# Altium footprint library Inductor_SMD.PcbLib: 587 footprints (part 1 of 37)
Each footprint in its own frame and in the unit in brackets; x right, y up, seen from the top. Pads: shape width x height; smd on the part's side, far side on the other; paste and mask are expansions set on the pad; w line width, h text height; cw(c..) or ccw(c..) is an arc to the next point about the centre after c.
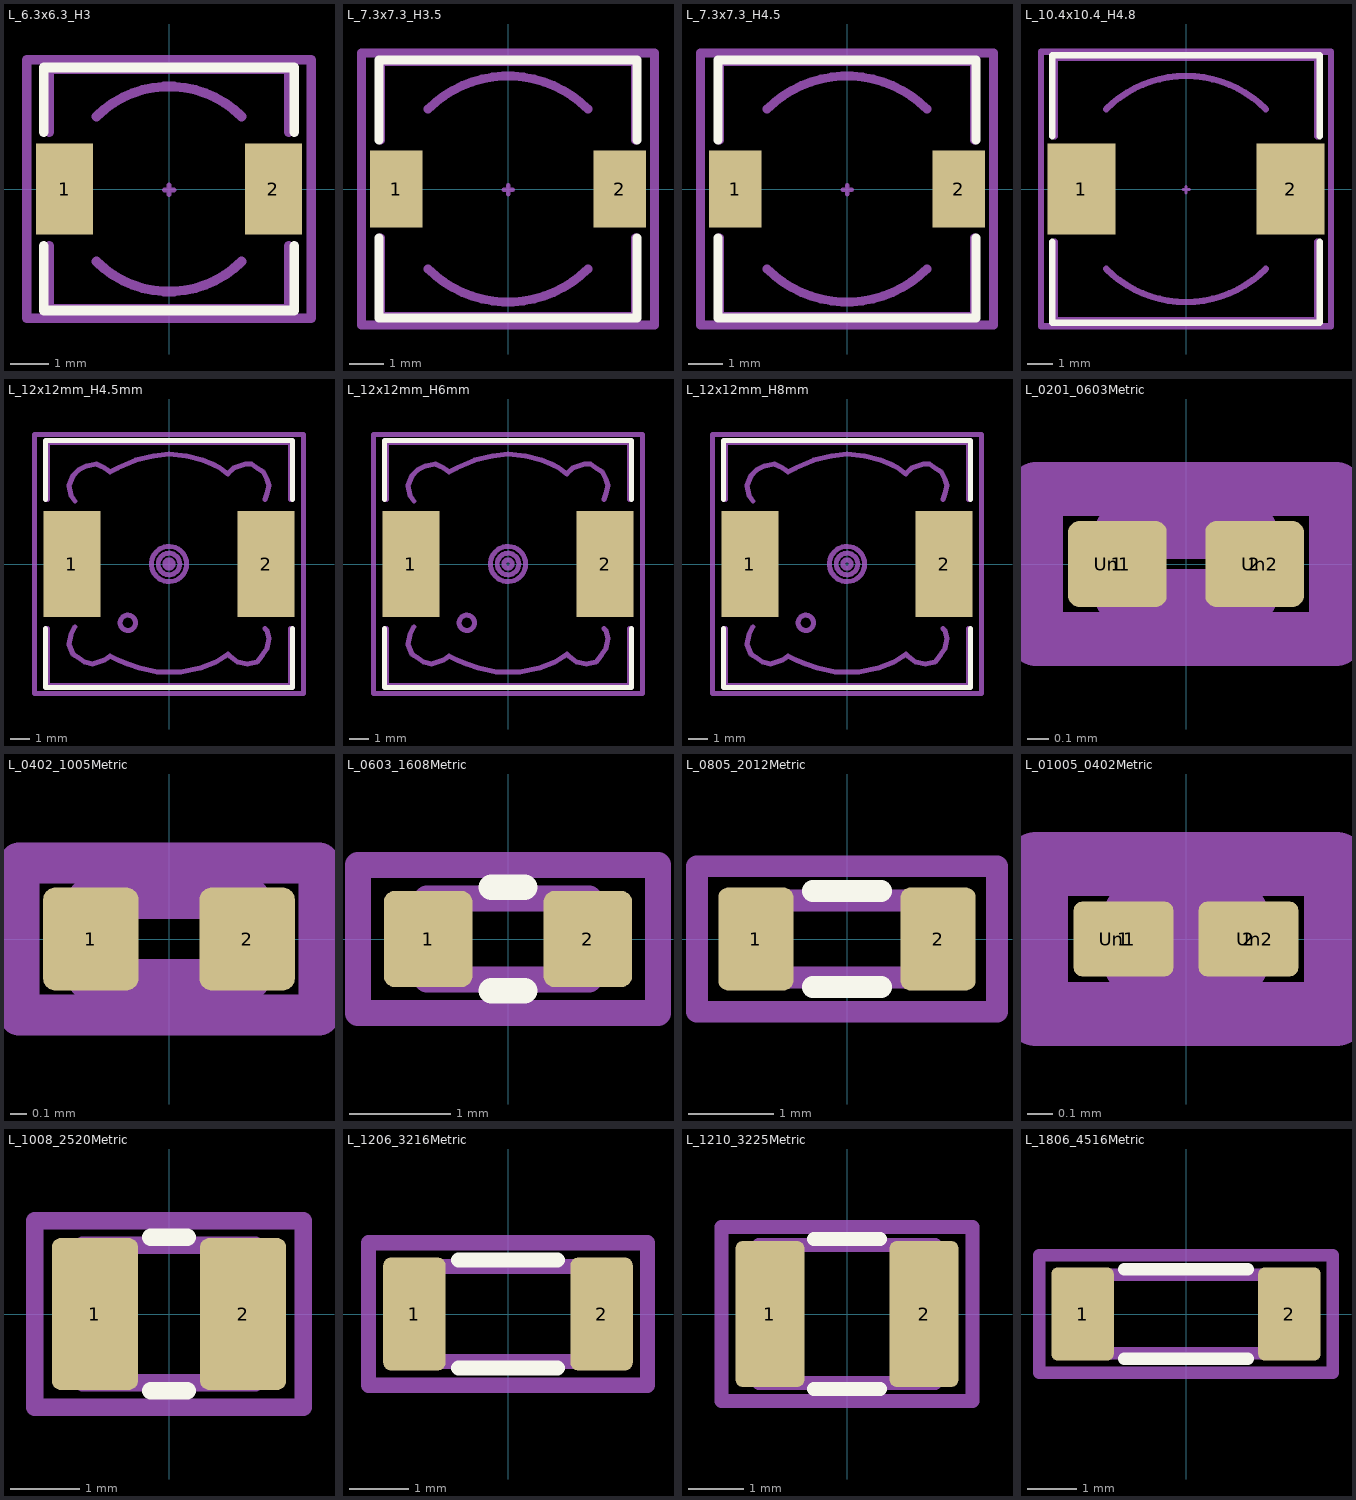
[diagram p0: the footprints below, top view; thin cyan lines are the x and y axes]

## L_6.3x6.3_H3 [mm] "L_6.3x6.3_H3"
pads (2):
  rect 1.5x2.4 smd: 1(-2.75,0) 2(2.75,0)
F.SilkS:
  lines w0.254: -3.3,-1.5 -3.3,-3.2 3.3,-3.2 3.3,-1.5 ; -3.3,1.5 -3.3,3.2 3.3,3.2 3.3,1.5
Top Component Center:
  lines w0.127: -0.123,-0.023 0.131,-0.023 ; 0.004,-0.15 0.004,0.104
Top Assembly:
  lines w0.254: -3.15,-1.5 -3.15,-3.15 3.15,-3.15 3.15,-1.5 ; -3.15,1.5 -3.15,3.15 3.15,3.15 3.15,1.5 ; -1.91,-1.91 ccw(c0,0) 1.91,-1.91 ; -1.91,1.91 cw(c0,0) 1.91,1.91
Top Courtyard:
  lines w0.254: -3.75,-3.4 -3.75,3.4 3.75,3.4 3.75,-3.4 -3.75,-3.4
Top Designator:
  text ".Designator" at -3.434,-0.345 h1.52

## L_7.3x7.3_H3.5 [mm] "L_7.3x7.3_H3.5"
pads (2):
  rect 1.5x2.2 smd: 1(-3.2,0) 2(3.2,0)
F.SilkS:
  lines w0.254: -3.7,-1.4 -3.7,-3.7 3.7,-3.7 3.7,-1.4 ; -3.7,1.4 -3.7,3.7 3.7,3.7 3.7,1.4
Top Component Center:
  lines w0.127: -0.123,-0.023 0.131,-0.023 ; 0.004,-0.15 0.004,0.104
Top Assembly:
  lines w0.254: -3.65,-1.4 -3.65,-3.65 3.65,-3.65 3.65,-1.4 ; -3.65,1.4 -3.65,3.65 3.65,3.65 3.65,1.4 ; -2.29,-2.29 ccw(c0,0) 2.29,-2.29 ; -2.29,2.29 cw(c0,0) 2.29,2.29
Top Courtyard:
  lines w0.254: -4.2,-3.9 4.2,-3.9 4.2,3.9 -4.2,3.9 -4.2,-3.9
Top Designator:
  text ".Designator" at -3.43,-0.368 h1.52

## L_7.3x7.3_H4.5 [mm] "L_7.3x7.3_H4.5"
pads (2):
  rect 1.5x2.2 smd: 1(-3.2,0) 2(3.2,0)
F.SilkS:
  lines w0.254: -3.7,-1.4 -3.7,-3.7 3.7,-3.7 3.7,-1.4 ; -3.7,1.4 -3.7,3.7 3.7,3.7 3.7,1.4
Top Component Center:
  lines w0.127: -0.123,-0.023 0.131,-0.023 ; 0.004,-0.15 0.004,0.104
Top Assembly:
  lines w0.254: -3.65,-1.4 -3.65,-3.65 3.65,-3.65 3.65,-1.4 ; -3.65,1.4 -3.65,3.65 3.65,3.65 3.65,1.4 ; -2.29,-2.29 ccw(c0,0) 2.29,-2.29 ; -2.29,2.29 cw(c0,0) 2.29,2.29
Top Courtyard:
  lines w0.254: -4.2,-3.9 4.2,-3.9 4.2,3.9 -4.2,3.9 -4.2,-3.9
Top Designator:
  text ".Designator" at -3.434,-0.345 h1.52

## L_10.4x10.4_H4.8 [mm] "L_10.4x10.4_H4.8"
pads (2):
  rect 2.7x3.6 smd: 1(-4.15,0) 2(4.15,0)
F.SilkS:
  lines w0.254: -5.3,-2.1 -5.3,-5.3 5.3,-5.3 5.3,-2.1 ; -5.3,2.1 -5.3,5.3 5.3,5.3 5.3,2.1
Top Component Center:
  lines w0.127: -0.123,-0.023 0.131,-0.023 ; 0.004,-0.15 0.004,0.104
Top Assembly:
  lines w0.254: -5.2,-2.1 -5.2,-5.2 5.2,-5.2 5.2,-2.1 ; -5.2,2.1 -5.2,5.2 5.2,5.2 5.2,2.1 ; -3.17,-3.17 ccw(c0,0) 3.17,-3.17 ; -3.17,3.17 cw(c0,0) 3.17,3.17
Top Courtyard:
  lines w0.254: -5.75,-5.45 5.75,-5.45 5.75,5.45 -5.75,5.45 -5.75,-5.45
Top Designator:
  text ".Designator" at -3.434,-0.345 h1.52

## L_12x12mm_H4.5mm [mm] "L_12x12mm_H4.5mm"
pads (2):
  rect 2.9x5.4 smd: 1(-4.95,0) 2(4.95,0)
F.SilkS:
  lines w0.254: -6.3,-3.3 -6.3,-6.3 6.3,-6.3 6.3,-3.3 ; -6.3,3.3 -6.3,6.3 6.3,6.3 6.3,3.3
Top Component Center:
  lines w0.127: -0.123,-0.023 0.131,-0.023 ; 0.004,-0.15 0.004,0.104
Top Assembly:
  circle w0.254: c-2.1,-3 r0.391
  lines w0.254: -6.2,-3.3 -6.2,-6.2 6.2,-6.2 6.2,-3.3 ; -6.2,3.3 -6.2,6.2 6.2,6.2 6.2,3.3 ; -4.8,-3.2 -5,-3.6 -5.1,-4.1 -4.9,-4.6 -4.6,-4.8 -4.3,-5 -3.9,-5.1 -3.3,-4.9 -3,-4.7 -2.6,-4.9 -2.1,-5.1 -1.5,-5.3 -0.6,-5.5 0.6,-5.5 1.6,-5.3 2.4,-5 3,-4.6 3.1,-4.7 3.5,-5 4,-5.1 4.5,-5 4.8,-4.6 5,-4.3 5.1,-3.8 5,-3.4 4.9,-3.3 ; -4.8,3.2 -5,3.5 -5.1,4 -4.9,4.5 -4.6,4.8 -4.2,5 -3.7,5.1 -3.3,4.9 -3,4.7 -2.6,4.9 -1.7,5.3 -0.8,5.5 0,5.6 0.9,5.5 1.7,5.3 2.2,5.1 2.6,4.9 3,4.6 3.3,4.9 3.6,5 3.9,5.1 4.2,5.1 4.5,4.9 4.8,4.7 5,4.3 5.1,4 5,3.6 4.9,3.3
Top Courtyard:
  lines w0.254: -6.86,-6.6 -6.86,6.6 6.86,6.6 6.86,-6.6 -6.86,-6.6
Top Designator:
  text ".Designator" at -3.434,-0.345 h1.52
Top Glue Points:
  circle w0.254: c0,0 r0.212
  circle w0.254: c0,0 r0.55
  circle w0.254: c0,0 r0.9

## L_12x12mm_H6mm [mm] "L_12x12mm_H6mm"
pads (2):
  rect 2.9x5.4 smd: 1(-4.95,0) 2(4.95,0)
F.SilkS:
  lines w0.254: -6.3,-3.3 -6.3,-6.3 6.3,-6.3 6.3,-3.3 ; -6.3,3.3 -6.3,6.3 6.3,6.3 6.3,3.3
Top Assembly:
  circle w0.254: c-2.1,-3 r0.391
  lines w0.254: -6.2,-3.3 -6.2,-6.2 6.2,-6.2 6.2,-3.3 ; -6.2,3.3 -6.2,6.2 6.2,6.2 6.2,3.3 ; -4.8,-3.2 -5,-3.6 -5.1,-4.1 -4.9,-4.6 -4.6,-4.8 -4.3,-5 -3.9,-5.1 -3.3,-4.9 -3,-4.7 -2.6,-4.9 -2.1,-5.1 -1.5,-5.3 -0.6,-5.5 0.6,-5.5 1.6,-5.3 2.4,-5 3,-4.6 3.1,-4.7 3.5,-5 4,-5.1 4.5,-5 4.8,-4.6 5,-4.3 5.1,-3.8 5,-3.4 4.9,-3.3 ; -4.8,3.2 -5,3.5 -5.1,4 -4.9,4.5 -4.6,4.8 -4.2,5 -3.7,5.1 -3.3,4.9 -3,4.7 -2.6,4.9 -1.7,5.3 -0.8,5.5 0,5.6 0.9,5.5 1.7,5.3 2.2,5.1 2.6,4.9 3,4.6 3.3,4.9 3.6,5 3.9,5.1 4.2,5.1 4.5,4.9 4.8,4.7 5,4.3 5.1,4 5,3.6 4.9,3.3
Top Courtyard:
  lines w0.254: -6.86,-6.6 -6.86,6.6 6.86,6.6 6.86,-6.6 -6.86,-6.6
Top Designator:
  text ".Designator" at -3.434,-0.345 h1.52
Top Glue Points:
  circle w0.254: c0,0 r0.212
  circle w0.254: c0,0 r0.55
  circle w0.254: c0,0 r0.9

## L_12x12mm_H8mm [mm] "L_12x12mm_H8mm"
pads (2):
  rect 2.9x5.4 smd: 1(-4.95,0) 2(4.95,0)
F.SilkS:
  lines w0.254: -6.3,-3.3 -6.3,-6.3 6.3,-6.3 6.3,-3.3 ; -6.3,3.3 -6.3,6.3 6.3,6.3 6.3,3.3
Top Assembly:
  circle w0.254: c-2.1,-3 r0.391
  lines w0.254: -6.2,-3.3 -6.2,-6.2 6.2,-6.2 6.2,-3.3 ; -6.2,3.3 -6.2,6.2 6.2,6.2 6.2,3.3 ; -4.8,-3.2 -5,-3.6 -5.1,-4.1 -4.9,-4.6 -4.6,-4.8 -4.3,-5 -3.9,-5.1 -3.3,-4.9 -3,-4.7 -2.6,-4.9 -2.1,-5.1 -1.5,-5.3 -0.6,-5.5 0.6,-5.5 1.6,-5.3 2.4,-5 3,-4.6 3.1,-4.7 3.5,-5 4,-5.1 4.5,-5 4.8,-4.6 5,-4.3 5.1,-3.8 5,-3.4 4.9,-3.3 ; -4.8,3.2 -5,3.5 -5.1,4 -4.9,4.5 -4.6,4.8 -4.2,5 -3.7,5.1 -3.3,4.9 -3,4.7 -2.6,4.9 -1.7,5.3 -0.8,5.5 0,5.6 0.9,5.5 1.7,5.3 2.2,5.1 2.6,4.9 3,4.6 3.3,4.9 3.6,5 3.9,5.1 4.2,5.1 4.5,4.9 4.8,4.7 5,4.3 5.1,4 5,3.6 4.9,3.3
Top Courtyard:
  lines w0.254: -6.86,-6.6 -6.86,6.6 6.86,6.6 6.86,-6.6 -6.86,-6.6
Top Designator:
  text ".Designator" at -3.434,-0.345 h1.52
Top Glue Points:
  circle w0.254: c0,0 r0.212
  circle w0.254: c0,0 r0.55
  circle w0.254: c0,0 r0.9

## L_0201_0603Metric [mm] "L_0201_0603Metric"
pads (4):
  rrect25% 0.46x0.4 smd: 1(-0.32,0) 2(0.32,0)
  rrect25% 0.318x0.36 on Top Paste: Un1(-0.345,0) Un2(0.345,0)
Top Assembly:
  lines w0.254: -0.3,-0.15 0.3,-0.15 0.3,0.15 -0.3,0.15 -0.3,-0.15
Top Courtyard:
  lines w0.254: -0.7,-0.35 0.7,-0.35 0.7,0.35 -0.7,0.35 -0.7,-0.35
Top Designator:
  text ".Designator" at -1.126,-0.113 h0.5
3D body "L_0201_0603Metric.step": height 0.3, standoff 0, extent -0.3,-0.15 0.3,0.15

## L_0402_1005Metric [mm] "L_0402_1005Metric"
pads (2):
  rrect25% 0.59x0.64 smd: 1(-0.485,0) 2(0.485,0)
Top Assembly:
  lines w0.254: -0.5,-0.25 -0.5,0.25 0.5,0.25 0.5,-0.25 -0.5,-0.25
Top Courtyard:
  lines w0.254: -0.93,-0.47 -0.93,0.47 0.93,0.47 0.93,-0.47 -0.93,-0.47
Top Designator:
  text ".Designator" at -1.126,-0.113 h0.5
3D body "L_0402_1005Metric.step": height 0.5, standoff 0, extent -0.5,-0.25 0.5,0.25

## L_0603_1608Metric [mm] "L_0603_1608Metric"
pads (2):
  rrect25% 0.875x0.95 smd: 1(-0.787,0) 2(0.787,0)
F.SilkS:
  lines w0.254: -0.163,-0.51 0.163,-0.51 ; -0.163,0.51 0.163,0.51
Top Assembly:
  lines w0.254: -0.8,-0.4 -0.8,0.4 0.8,0.4 0.8,-0.4 -0.8,-0.4
Top Courtyard:
  lines w0.254: -1.48,-0.73 -1.48,0.73 1.48,0.73 1.48,-0.73 -1.48,-0.73
Top Designator:
  text ".Designator" at -1.126,-0.113 h0.5
3D body "L_0603_1608Metric.step": height 0.8, standoff 0, extent -0.8,-0.4 0.8,0.4

## L_0805_2012Metric [mm] "L_0805_2012Metric"
pads (2):
  rrect25% 0.875x1.2 smd: 1(-1.062,0) 2(1.062,0)
F.SilkS:
  lines w0.254: -0.4,-0.56 0.4,-0.56 ; -0.4,0.56 0.4,0.56
Top Assembly:
  lines w0.254: -1,-0.45 1,-0.45 1,0.45 -1,0.45 -1,-0.45
Top Courtyard:
  lines w0.254: -1.75,-0.85 1.75,-0.85 1.75,0.85 -1.75,0.85 -1.75,-0.85
Top Designator:
  text ".Designator" at -1.69,-0.17 h0.75
3D body "L_0805_2012Metric.step": height 1.25, standoff 0, extent -1,-0.625 1,0.625

## L_01005_0402Metric [mm] "L_01005_0402Metric"
pads (4):
  rrect25% 0.4x0.3 smd: 1(-0.25,0) 2(0.25,0)
  rrect25% 0.27x0.27 on Top Paste: Un1(-0.275,0) Un2(0.275,0)
Top Assembly:
  lines w0.254: -0.2,-0.1 -0.2,0.1 0.2,0.1 0.2,-0.1 -0.2,-0.1
Top Courtyard:
  lines w0.254: -0.6,-0.3 -0.6,0.3 0.6,0.3 0.6,-0.3 -0.6,-0.3
Top Designator:
  text ".Designator" at -1.126,-0.113 h0.5
3D body "L_01005_0402Metric.step": height 0.2, standoff 0, extent -0.2,-0.1 0.2,0.1

## L_1008_2520Metric [mm] "L_1008_2520Metric"
pads (2):
  rrect20% 1.25x2.2 smd: 1(-1.075,0) 2(1.075,0)
F.SilkS:
  lines w0.254: -0.261,-1.11 0.261,-1.11 ; -0.261,1.11 0.261,1.11
Top Assembly:
  lines w0.254: -1.25,-1 1.25,-1 1.25,1 -1.25,1 -1.25,-1
Top Courtyard:
  lines w0.254: -1.95,-1.35 1.95,-1.35 1.95,1.35 -1.95,1.35 -1.95,-1.35
Top Designator:
  text ".Designator" at -2.253,-0.227 h1
3D body "L_1008_2520Metric.step": height 1.2, standoff 0, extent -1.25,-1 1.25,1

## L_1206_3216Metric [mm] "L_1206_3216Metric"
pads (2):
  rrect24% 1.05x1.9 smd: 1(-1.575,0) 2(1.575,0)
F.SilkS:
  lines w0.254: -0.835,-0.91 0.835,-0.91 ; -0.835,0.91 0.835,0.91
Top Assembly:
  lines w0.254: -1.6,-0.8 -1.6,0.8 1.6,0.8 1.6,-0.8 -1.6,-0.8
Top Courtyard:
  lines w0.254: -2.35,-1.2 -2.35,1.2 2.35,1.2 2.35,-1.2 -2.35,-1.2
Top Designator:
  text ".Designator" at -2.253,-0.227 h1
3D body "L_1206_3216Metric.step": height 1.6, standoff 0, extent -1.6,-0.8 1.6,0.8

## L_1210_3225Metric [mm] "L_1210_3225Metric"
pads (2):
  rrect20% 1.25x2.65 smd: 1(-1.4,0) 2(1.4,0)
F.SilkS:
  lines w0.254: -0.602,-1.36 0.602,-1.36 ; -0.602,1.36 0.602,1.36
Top Assembly:
  lines w0.254: -1.6,-1.25 -1.6,1.25 1.6,1.25 1.6,-1.25 -1.6,-1.25
Top Courtyard:
  lines w0.254: -2.28,-1.58 -2.28,1.58 2.28,1.58 2.28,-1.58 -2.28,-1.58
Top Designator:
  text ".Designator" at -2.253,-0.227 h1
3D body "L_1210_3225Metric.step": height 2.5, standoff 0, extent -1.6,-1.25 1.6,1.25

## L_1806_4516Metric [mm] "L_1806_4516Metric"
pads (2):
  rrect20% 1.275x1.9 smd: 1(-2.113,0) 2(2.113,0)
F.SilkS:
  lines w0.254: -1.26,-0.91 1.26,-0.91 ; -1.26,0.91 1.26,0.91
Top Assembly:
  lines w0.254: -2.25,-0.8 2.25,-0.8 2.25,0.8 -2.25,0.8 -2.25,-0.8
Top Courtyard:
  lines w0.254: -3,-1.2 3,-1.2 3,1.2 -3,1.2 -3,-1.2
Top Designator:
  text ".Designator" at -3.434,-0.345 h1.52
3D body "L_1806_4516Metric.step": height 1.6, standoff 0, extent -2.25,-0.8 2.25,0.8